# Altium footprint library LBS.PcbLib: 1 footprints
Each footprint in its own frame and in the unit in brackets; x right, y up, seen from the top. Pads: shape width x height; smd on the part's side, far side on the other; paste and mask are expansions set on the pad; w line width, h text height; cw(c..) or ccw(c..) is an arc to the next point about the centre after c.
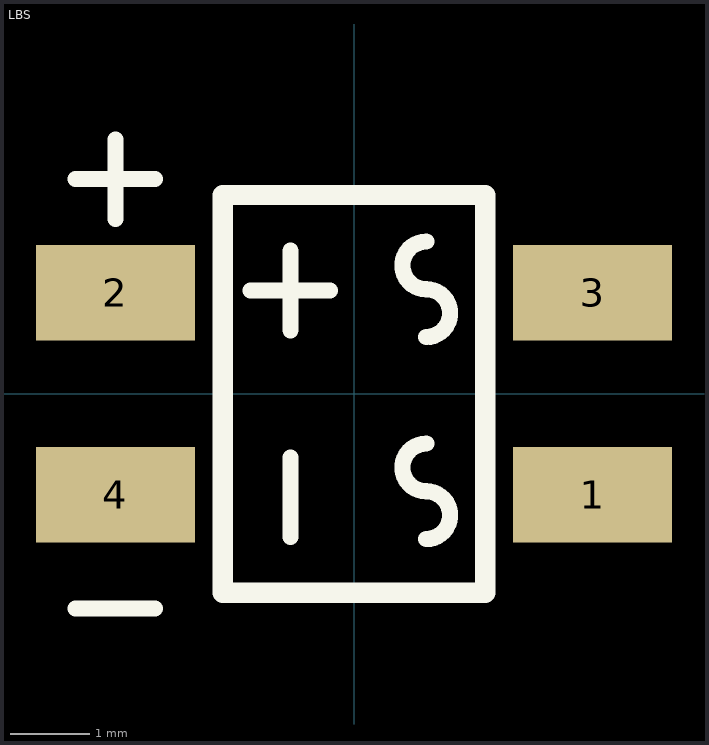
[diagram p0: the footprint, top view; thin cyan lines are the x and y axes]

## LBS [mm]
pads (4):
  rect 2x1.2 smd: 1(3,-1.27) 2(-3,1.27) 3(3,1.27) 4(-3,-1.27)
Top Overlay:
  lines w0.203: -3.5,-2.7 -2.5,-2.7 ; -3.5,2.7 -2.5,2.7 ; -3,2.2 -3,3.2 ; -1.3,1.3 -0.3,1.3 ; -0.8,-1.8 -0.8,-0.8 ; -0.8,0.8 -0.8,1.8 ; 0.908,-1.825 ccw(c0.908,-1.525) 0.908,-1.225 cw(c0.908,-0.925) 0.908,-0.625 ; 0.908,0.715 ccw(c0.908,1.015) 0.908,1.315 cw(c0.908,1.615) 0.908,1.915
  lines w0.254: -1.651,-2.5 1.651,-2.5 1.651,2.5 -1.651,2.5 -1.651,-2.5